# Altium footprint library SCHURTER_0031-8211.PcbLib: 1 footprints
Each footprint in its own frame and in the unit in brackets; x right, y up, seen from the top. Pads: shape width x height; smd on the part's side, far side on the other; paste and mask are expansions set on the pad; w line width, h text height; cw(c..) or ccw(c..) is an arc to the next point about the centre after c.
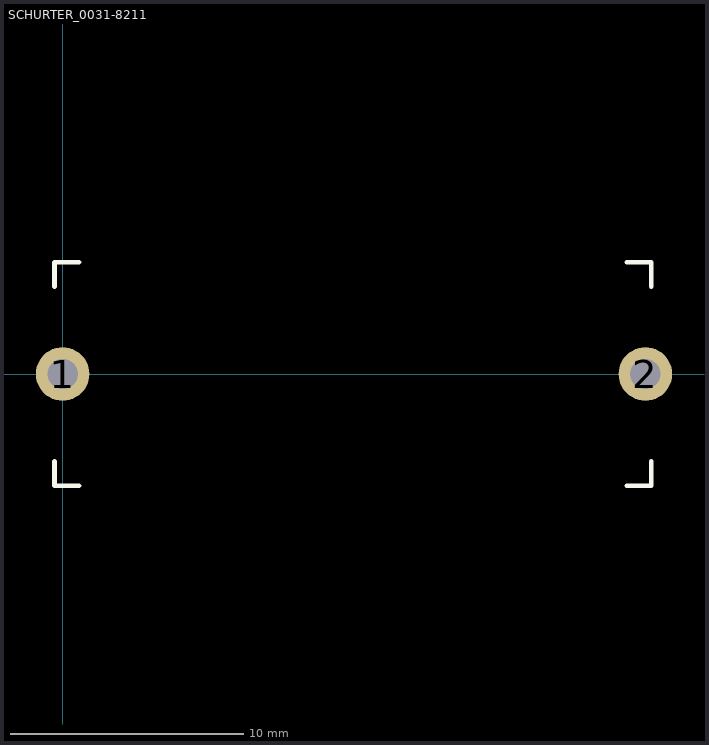
[diagram p0: the footprint, top view; thin cyan lines are the x and y axes]

## SCHURTER_0031-8211 [mm] "Schurter Fuse Holder OGN series"
pads (2):
  round 2.3 hole 1.3: 1(0,0) 2(25,0)
Top Overlay:
  lines w0.2: -0.35,-3.75 -0.35,-4.8 0.7,-4.8 ; -0.35,3.75 -0.35,4.8 0.7,4.8 ; 24.2,-4.8 25.25,-4.8 25.25,-3.75 ; 24.2,4.8 25.25,4.8 25.25,3.75
3D body "schurter_0031-8211.stp": height 11.5, standoff -4, extent -0.35,-4.8 25.25,4.8